# EAGLE library part MCU-ATSAM3X8EA-AU-ND(LQFP144) (library SKAARHOJ)
310010111
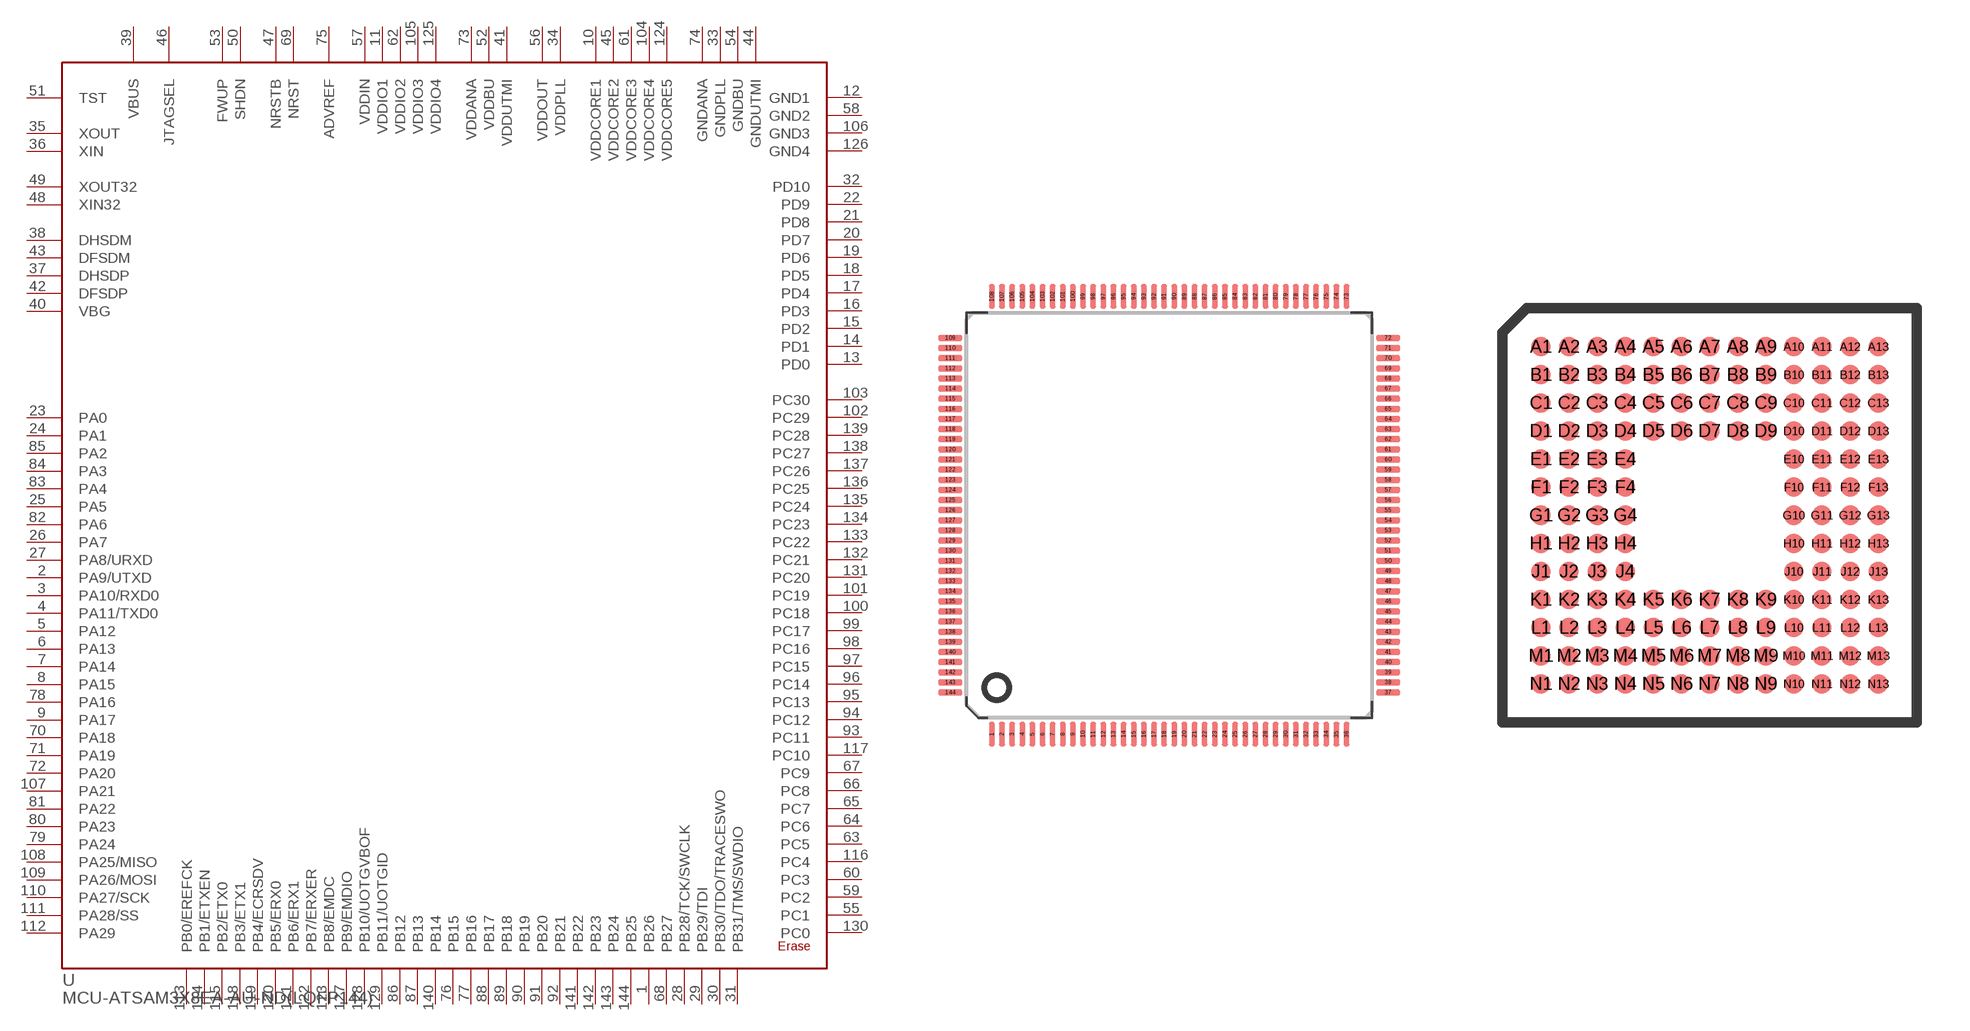
[diagram p75: symbol with the pads of LQFP144-0.5-20X20M; footprints LQFP144-0.5-20X20M, PBGA144]

Designator prefix U

## MCU-ATSAM3X8EA-AU-ND(LQFP144) (DESCRIPTION: SMD-IC-MCU-32BIT-512KB-FLASH-84MHz)  [LQFP144-0.5-20X20M]
1  PB26
2  PA9/UTXD
3  PA10/RXD0
4  PA11/TXD0
5  PA12
6  PA13
7  PA14
8  PA15
9  PA17
10  VDDCORE1  in
11  VDDIO1  pwr
12  GND1  pwr
13  PD0
14  PD1
15  PD2
16  PD3
17  PD4
18  PD5
19  PD6
20  PD7
21  PD8
22  PD9
23  PA0
24  PA1
25  PA5
26  PA7
27  PA8/URXD
28  PB28/TCK/SWCLK
29  PB29/TDI
30  PB30/TDO/TRACESWO
31  PB31/TMS/SWDIO
32  PD10
33  GNDPLL  pwr
34  VDDPLL  in
35  XOUT  out
36  XIN  in
37  DHSDP
38  DHSDM
39  VBUS  pwr
40  VBG  pas
41  VDDUTMI  in
42  DFSDP  in
43  DFSDM  in
44  GNDUTMI  pwr
45  VDDCORE2  in
46  JTAGSEL  in
47  NRSTB  in
48  XIN32  out
49  XOUT32  out
50  SHDN  out
51  TST  in
52  VDDBU  pwr
53  FWUP  in
54  GNDBU  pwr
55  PC1
56  VDDOUT  out
57  VDDIN  pwr
58  GND2  pwr
59  PC2
60  PC3
61  VDDCORE3  in
62  VDDIO2  pwr
63  PC5
64  PC6
65  PC7
66  PC8
67  PC9
68  PB27
69  NRST
70  PA18
71  PA19
72  PA20
73  VDDANA  pwr
74  GNDANA  pwr
75  ADVREF  pwr
76  PB15
77  PB16
78  PA16
79  PA24
80  PA23
81  PA22
82  PA6
83  PA4
84  PA3
85  PA2
86  PB12
87  PB13
88  PB17
89  PB18
90  PB19
91  PB20
92  PB21
93  PC11
94  PC12
95  PC13
96  PC14
97  PC15
98  PC16
99  PC17
100  PC18
101  PC19
102  PC29
103  PC30
104  VDDCORE4  in
105  VDDIO3  pwr
106  GND3  pwr
107  PA21
108  PA25/MISO
109  PA26/MOSI
110  PA27/SCK
111  PA28/SS
112  PA29
113  PB0/EREFCK
114  PB1/ETXEN
115  PB2/ETX0
116  PC4
117  PC10
118  PB3/ETX1
119  PB4/ECRSDV
120  PB5/ERX0
121  PB6/ERX1
122  PB7/ERXER
123  PB8/EMDC
124  VDDCORE5  in
125  VDDIO4  pwr
126  GND4  pwr
127  PB9/EMDIO
128  PB10/UOTGVBOF
129  PB11/UOTGID
130  PC0
131  PC20
132  PC21
133  PC22
134  PC23
135  PC24
136  PC25
137  PC26
138  PC27
139  PC28
140  PB14
141  PB22
142  PB23
143  PB24
144  PB25

## MCU-ATSAM3X8EA-AU-ND(LQFP144)BGA  [PBGA144]

## Footprint LQFP144-0.5-20X20M (pad centres in mm)
QFP144 shrink quad flat pack, square (smd-ipc)
smd 0.3 x 1.2: 1 -8.75,-10.8; 2 -8.25,-10.8; 3 -7.75,-10.8; 4 -7.25,-10.8; 5 -6.75,-10.8; 6 -6.25,-10.8; 7 -5.75,-10.8; 8 -5.25,-10.8; 9 -4.75,-10.8; 10 -4.25,-10.8; 11 -3.75,-10.8; 12 -3.25,-10.8; 13 -2.75,-10.8; 14 -2.25,-10.8; 15 -1.75,-10.8; 16 -1.25,-10.8; 17 -0.75,-10.8; 18 -0.25,-10.8; 19 0.25,-10.8; 20 0.75,-10.8; 21 1.25,-10.8; 22 1.75,-10.8; 23 2.25,-10.8; 24 2.75,-10.8; 25 3.25,-10.8; 26 3.75,-10.8; 27 4.25,-10.8; 28 4.75,-10.8; 29 5.25,-10.8; 30 5.75,-10.8; 31 6.25,-10.8; 32 6.75,-10.8; 33 7.25,-10.8; 34 7.75,-10.8; 35 8.25,-10.8; 36 8.75,-10.8; 73 8.75,10.8; 74 8.25,10.8; 75 7.75,10.8; 76 7.25,10.8; 77 6.75,10.8; 78 6.25,10.8; 79 5.75,10.8; 80 5.25,10.8; 81 4.75,10.8; 82 4.25,10.8; 83 3.75,10.8; 84 3.25,10.8; 85 2.75,10.8; 86 2.25,10.8; 87 1.75,10.8; 88 1.25,10.8; 89 0.75,10.8; 90 0.25,10.8; 91 -0.25,10.8; 92 -0.75,10.8; 93 -1.25,10.8; 94 -1.75,10.8; 95 -2.25,10.8; 96 -2.75,10.8; 97 -3.25,10.8; 98 -3.75,10.8; 99 -4.25,10.8; 100 -4.75,10.8; 101 -5.25,10.8; 102 -5.75,10.8; 103 -6.25,10.8; 104 -6.75,10.8; 105 -7.25,10.8; 106 -7.75,10.8; 107 -8.25,10.8; 108 -8.75,10.8
smd 1.2 x 0.3: 37 10.8,-8.75; 38 10.8,-8.25; 39 10.8,-7.75; 40 10.8,-7.25; 41 10.8,-6.75; 42 10.8,-6.25; 43 10.8,-5.75; 44 10.8,-5.25; 45 10.8,-4.75; 46 10.8,-4.25; 47 10.8,-3.75; 48 10.8,-3.25; 49 10.8,-2.75; 50 10.8,-2.25; 51 10.8,-1.75; 52 10.8,-1.25; 53 10.8,-0.75; 54 10.8,-0.25; 55 10.8,0.25; 56 10.8,0.75; 57 10.8,1.25; 58 10.8,1.75; 59 10.8,2.25; 60 10.8,2.75; 61 10.8,3.25; 62 10.8,3.75; 63 10.8,4.25; 64 10.8,4.75; 65 10.8,5.25; 66 10.8,5.75; 67 10.8,6.25; 68 10.8,6.75; 69 10.8,7.25; 70 10.8,7.75; 71 10.8,8.25; 72 10.8,8.75; 109 -10.8,8.75; 110 -10.8,8.25; 111 -10.8,7.75; 112 -10.8,7.25; 113 -10.8,6.75; 114 -10.8,6.25; 115 -10.8,5.75; 116 -10.8,5.25; 117 -10.8,4.75; 118 -10.8,4.25; 119 -10.8,3.75; 120 -10.8,3.25; 121 -10.8,2.75; 122 -10.8,2.25; 123 -10.8,1.75; 124 -10.8,1.25; 125 -10.8,0.75; 126 -10.8,0.25; 127 -10.8,-0.25; 128 -10.8,-0.75; 129 -10.8,-1.25; 130 -10.8,-1.75; 131 -10.8,-2.25; 132 -10.8,-2.75; 133 -10.8,-3.25; 134 -10.8,-3.75; 135 -10.8,-4.25; 136 -10.8,-4.75; 137 -10.8,-5.25; 138 -10.8,-5.75; 139 -10.8,-6.25; 140 -10.8,-6.75; 141 -10.8,-7.25; 142 -10.8,-7.75; 143 -10.8,-8.25; 144 -10.8,-8.75

## Footprint PBGA144 (pad centres in mm)
PLASTIC BALL GRID ARRAY PACKAGE GGU (S-PBGA-N144) Source: tms320vc5402.pdf
smd 0.55 x 0.55: A1 -4.8,4.8; A2 -4,4.8; A3 -3.2,4.8; A4 -2.4,4.8; A5 -1.6,4.8; A6 -0.8,4.8; A7 0,4.8; A8 0.8,4.8; A9 1.6,4.8; A10 2.4,4.8; A11 3.2,4.8; A12 4,4.8; A13 4.8,4.8; B1 -4.8,4; B2 -4,4; B3 -3.2,4; B4 -2.4,4; B5 -1.6,4; B6 -0.8,4; B7 0,4; B8 0.8,4; B9 1.6,4; B10 2.4,4; B11 3.2,4; B12 4,4; B13 4.8,4; C1 -4.8,3.2; C2 -4,3.2; C3 -3.2,3.2; C4 -2.4,3.2; C5 -1.6,3.2; C6 -0.8,3.2; C7 0,3.2; C8 0.8,3.2; C9 1.6,3.2; C10 2.4,3.2; C11 3.2,3.2; C12 4,3.2; C13 4.8,3.2; D1 -4.8,2.4; D2 -4,2.4; D3 -3.2,2.4; D4 -2.4,2.4; D5 -1.6,2.4; D6 -0.8,2.4; D7 0,2.4; D8 0.8,2.4; D9 1.6,2.4; D10 2.4,2.4; D11 3.2,2.4; D12 4,2.4; D13 4.8,2.4; E1 -4.8,1.6; E2 -4,1.6; E3 -3.2,1.6; E4 -2.4,1.6; E10 2.4,1.6; E11 3.2,1.6; E12 4,1.6; E13 4.8,1.6; F1 -4.8,0.8; F2 -4,0.8; F3 -3.2,0.8; F4 -2.4,0.8; F10 2.4,0.8; F11 3.2,0.8; F12 4,0.8; F13 4.8,0.8; G1 -4.8,0; G2 -4,0; G3 -3.2,0; G4 -2.4,0; G10 2.4,0; G11 3.2,0; G12 4,0; G13 4.8,0; H1 -4.8,-0.8; H2 -4,-0.8; H3 -3.2,-0.8; H4 -2.4,-0.8; H10 2.4,-0.8; H11 3.2,-0.8; H12 4,-0.8; H13 4.8,-0.8; J1 -4.8,-1.6; J2 -4,-1.6; J3 -3.2,-1.6; J4 -2.4,-1.6; J10 2.4,-1.6; J11 3.2,-1.6; J12 4,-1.6; J13 4.8,-1.6; K1 -4.8,-2.4; K2 -4,-2.4; K3 -3.2,-2.4; K4 -2.4,-2.4; K5 -1.6,-2.4; K6 -0.8,-2.4; K7 0,-2.4; K8 0.8,-2.4; K9 1.6,-2.4; K10 2.4,-2.4; K11 3.2,-2.4; K12 4,-2.4; K13 4.8,-2.4; L1 -4.8,-3.2; L2 -4,-3.2; L3 -3.2,-3.2; L4 -2.4,-3.2; L5 -1.6,-3.2; L6 -0.8,-3.2; L7 0,-3.2; L8 0.8,-3.2; L9 1.6,-3.2; L10 2.4,-3.2; L11 3.2,-3.2; L12 4,-3.2; L13 4.8,-3.2; M1 -4.8,-4; M2 -4,-4; M3 -3.2,-4; M4 -2.4,-4; M5 -1.6,-4; M6 -0.8,-4; M7 0,-4; M8 0.8,-4; M9 1.6,-4; M10 2.4,-4; M11 3.2,-4; M12 4,-4; M13 4.8,-4; N1 -4.8,-4.8; N2 -4,-4.8; N3 -3.2,-4.8; N4 -2.4,-4.8; N5 -1.6,-4.8; N6 -0.8,-4.8; N7 0,-4.8; N8 0.8,-4.8; N9 1.6,-4.8; N10 2.4,-4.8; N11 3.2,-4.8; N12 4,-4.8; N13 4.8,-4.8